# Altium schematic symbol library resistor-smd.SchLib: 21 symbols
Pins are listed as number, name and electrical type; pins without a type are passive.

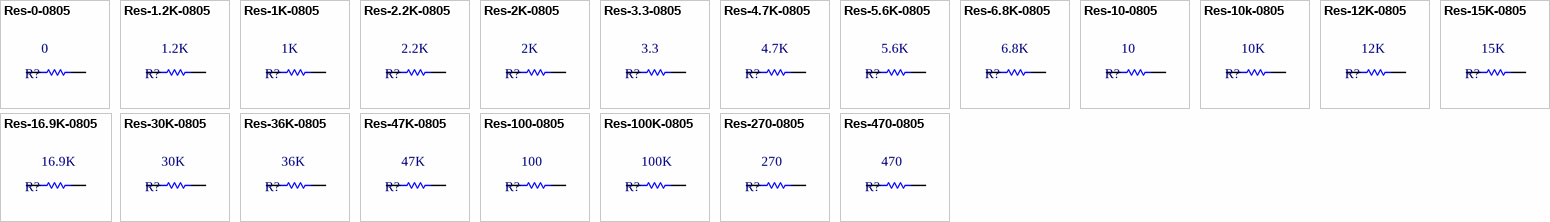
[diagram p0: symbols Res-0-0805 to Res-470-0805]

## Res-0-0805
designator R?  value 0
RES 0 OHM JUMPER 0805; Manufacturer: Vishay Dale; Manufacturer Part Number: WSL080500000ZEA9; Local Supplier: thegioiic; Local Supplier Link: https://thegioiic.com/products/dien-tro-0-ohm-0805-5; Supplier 1: Digikey; Supplier 1 Link: https://www.digikey.com/product-detail/en/vishay-dale/WSL080500000ZEA9/541-3928-1-ND/7423223; Supplier 1 Part Number: 541-3928-1-ND
footprint RES-SM-0805
pins: 1, 2

## Res-1.2K-0805
designator R?  value 1.2K
RES SMD 1.2K OHM 1% 1/8W 0805; Manufacturer: TE Connectivity Passive Product; Manufacturer Part Number: CRG0805F1K2; Local Supplier: thegioiic; Local Supplier Link: https://thegioiic.com/products/dien-tro-1-2k-ohm-0805-5; Supplier 1: Digikey; Supplier 1 Link: https://www.digikey.com/product-detail/en/te-connectivity-passive-product/CRG0805F1K2/A126346CT-ND/7603401; Supplier 1 Part Number: A126346CT-ND
footprint RES-SM-0805
pins: 1, 2

## Res-1K-0805
designator R?  value 1K
RES 1K OHM 1% 1/4W 0805; Manufacturer: Stackpole Electronics Inc; Manufacturer Part Number: RNCP0805FTD1K00; Local Supplier: thegioiic; Local Supplier Link: https://www.thegioiic.com/products/dien-tro-1-kohm-0805-5; Supplier 1: Digikey; Supplier 1 Link: https://www.digikey.com/product-detail/en/stackpole-electronics-inc/RNCP0805FTD1K00/RNCP0805FTD1K00CT-ND/2240568; Supplier 1 Part Number: RNCP0805FTD1K00CT-ND
footprint RES-SM-0805
pins: 1, 2

## Res-2.2K-0805
designator R?  value 2.2K
RES SMD 2.2K OHM 1% 1/8W 0805; Manufacturer: TE Connectivity Passive Product; Manufacturer Part Number: CRG0805F2K2; Local Supplier: thegioiic; Local Supplier Link: https://thegioiic.com/products/dien-tro-2-2k-ohm-0805-5; Supplier 1: Digikey; Supplier 1 Link: https://www.digikey.com/product-detail/en/te-connectivity-passive-product/CRG0805F2K2/A106060CT-ND/3477706; Supplier 1 Part Number: A106060CT-ND
footprint RES-SM-0805
pins: 1, 2

## Res-2K-0805
designator R?  value 2K
RES 2K OHM 0.1% 1/8W 0805; Manufacturer: Panasonic Electronic Components; Manufacturer Part Number: ERA-6AEB202V; Local Supplier: thegioiic; Local Supplier Link: https://thegioiic.com/products/dien-tro-2k-ohm-0805-1; Supplier 1: Digikey; Supplier 1 Link: https://www.digikey.com/product-detail/en/panasonic-electronic-components/ERA-6AEB202V/P2.0KDATR-ND/1465756; Supplier 1 Part Number: P2.0KDATR-ND
footprint RES-SM-0805
pins: 1, 2

## Res-3.3-0805
designator R?  value 3.3
RES SMD 3.3 OHM 5% 0.4W 0805; Manufacturer: Rohm Semiconductor; Manufacturer Part Number: ESR10EZPJ3R3; Local Supplier: thegioiic; Local Supplier Link: https://thegioiic.com/products/dien-tro-3-3-ohm-0805-5; Supplier 1: Digikey; Supplier 1 Link: https://www.digikey.com/product-detail/en/rohm-semiconductor/ESR10EZPJ3R3/RHM3.3KCT-ND/1763022; Supplier 1 Part Number: RHM3.3KCT-ND
footprint RES-SM-0805
pins: 1, 2

## Res-4.7K-0805
designator R?  value 4.7K
RES SMD 4.7K OHM 5% 1/8W 0805; Manufacturer: Yageo; Manufacturer Part Number: RC0805JR-074K7L; Local Supplier: thegioiic; Local Supplier Link: https://www.thegioiic.com/products/dien-tro-4-7-kohm-0805-5; Supplier 1: Digikey; Supplier 1 Link: https://www.digikey.com/product-detail/en/yageo/RC0805JR-074K7L/311-4.7KARCT-ND/731274; Supplier 1 Part Number: 311-4.7KARCT-ND
footprint RES-SM-0805
pins: 1, 2

## Res-5.6K-0805
designator R?  value 5.6K
RES SMD 5.6K OHM 1% 1/8W 0805; Manufacturer: Yageo; Manufacturer Part Number: RC0805FR-075K6L; Local Supplier: thegioiic; Local Supplier Link: https://thegioiic.com/products/dien-tro-5-6k-ohm-0805-5; Supplier 1: Digigkey; Supplier 1 Link: https://www.digikey.com/product-detail/en/yageo/RC0805FR-075K6L/311-5.60KCRCT-ND/730949; Supplier 1 Part Number: 311-5.60KCRCT-ND
footprint RES-SM-0805
pins: 1, 2

## Res-6.8K-0805
designator R?  value 6.8K
RES SMD 6.8K OHM 1% 1/8W 0805; Manufacturer: TE Connectivity Passive Product; Manufacturer Part Number: CRG0805F6K8; Local Supplier: thegioiic; Local Supplier Link: https://thegioiic.com/products/dien-tro-6-8k-ohm-0603-5; Supplier 1: Digikey; Supplier 1 Link: https://www.digikey.com/product-detail/en/te-connectivity-passive-product/CRG0805F6K8/A126384CT-ND/7603439; Supplier 1 Part Number: A126384CT-ND
footprint RES-SM-0805
pins: 1, 2

## Res-10-0805
designator R?  value 10
RES 10 OHM 0.1% 1/5W 0805; Manufacturer: Vishay Thin Film; Manufacturer Part Number: PTN0805E10R0BST1; Local Supplier: thegioiic; Local Supplier Link: https://thegioiic.com/products/dien-tro-10-ohm-0805-5; Supplier 1: Digikey; Supplier 1 Link: https://www.digikey.com/product-detail/en/vishay-thin-film/PTN0805E10R0BST1/764-1471-1-ND/7103255; Supplier 1 Part Number: 764-1471-1-ND
footprint RES-SM-0805
pins: 1, 2

## Res-10k-0805
designator R?  value 10K
RES 10K OHM 1% 1/4W 0805; Manufacturer: Stackpole Electronics Inc; Manufacturer Part Number: RNCP0805FTD10K0; Local Supplier: thegioiic; Local Supplier Link: https://www.thegioiic.com/products/dien-tro-10-kohm-0805-5; Supplier 1: Digikey; Supplier 1 Link: https://www.digikey.com/product-detail/en/stackpole-electronics-inc/RNCP0805FTD10K0/RNCP0805FTD10K0CT-ND/2240601; Supplier 1 Part Number: RNCP0805FTD10K0CT-ND
footprint RES-SM-0805
pins: 1, 2

## Res-12K-0805
designator R?  value 12K
RES 12 KOHM JUMPER 0805; Manufacturer: Vishay Thin Film; Manufacturer Part Number: PAT0805E3121BST1; Local Supplier: icdayroi; Local Supplier Link: https://icdayroi.com/dien-tro-12k-0805-1-goi-50-con; Supplier 1: Digikey; Supplier 1 Link: https://www.digikey.com/product-detail/en/vishay-thin-film/PAT0805E3121BST1/PAT0805E3121BST1-ND/2281536; Supplier 1 Part Number: PAT0805E3121BST1-ND
footprint RES-SM-0805
pins: 1, 2

## Res-15K-0805
designator R?  value 15K
RES 15K OHM 1% 1/4W 0805; Manufacturer: TE Connectivity Passive Product; Manufacturer Part Number: CRGCQ0805F15K; Local Supplier: thegioiic; Local Supplier Link: https://www.thegioiic.com/products/dien-tro-15-kohm-0805-5; Supplier 1: Digikey; Supplier 1 Part Number: A129763CT-ND; Supplier 1 Link: https://www.digikey.com/product-detail/en/te-connectivity-passive-product/CRGCQ0805F15K/A129763CT-ND/8577595
footprint RES-SM-0805
pins: 1, 2

## Res-16.9K-0805
designator R?  value 16.9K
RES SMD 16.9K OHM 1% 1/8W 0805; Local Supplier: thegioiic; Local Supplier Link: https://thegioiic.com/products/dien-tro-16-9k-ohm-0805-1; Supplier 1: Digikey; Supplier 1 Link: https://www.digikey.com/product-detail/en/yageo/RC0805FR-0716K9L/311-16.9KCRCT-ND/730573; Supplier 1 Part Number: 311-16.9KCRCT-ND
footprint RES-SM-0805
pins: 1, 2

## Res-30K-0805
designator R?  value 30K
RES SMD 30K OHM 1% 1/8W 0805; Manufacturer: TE Connectivity Passive Product; Manufacturer Part Number: CRG0805F30K; Local Supplier: thegioiic; Local Supplier Link: https://thegioiic.com/products/dien-tro-30k-ohm-0805-1; Supplier 1: Digikey; Supplier 1 Link: https://www.digikey.com/product-detail/en/te-connectivity-passive-product/CRG0805F30K/A126360CT-ND/7603415; Supplier 1 Part Number: A126360CT-ND
footprint RES-SM-0805
pins: 1, 2

## Res-36K-0805
designator R?  value 36K
RES SMD 36K OHM 1% 1/8W 0805; Manufacturer: Yageo; Manufacturer Part Number: RC0805FR-0736KL; Local Supplier: thegioiic; Local Supplier Link: https://thegioiic.com/products/dien-tro-36k-ohm-0805-5; Supplier 1: Digikey; Supplier 1 Link: https://www.digikey.com/product-detail/en/yageo/RC0805FR-0736KL/311-36.0KCRCT-ND/730830; Supplier 1 Part Number: 311-36.0KCRCT-ND
footprint RES-SM-0805
pins: 1, 2

## Res-47K-0805
designator R?  value 47K
RES SMD 47K OHM 1% 1/8W 0805; Manufacturer: Yageo; Manufacturer Part Number: RC0805FR-0747KL; Local Supplier: thegioiic; Local Supplier Link: https://thegioiic.com/products/dien-tro-47k-ohm-0603-5; Supplier 1: Digikey; Supplier 1 Part Number: 311-47.0KCRCT-ND; Supplier 1 Link: https://www.digikey.com/product-detail/en/yageo/RC0805FR-0747KL/311-47.0KCRCT-ND/730920
footprint RES-SM-0805
pins: 1, 2

## Res-100-0805
designator R?  value 100
RES 100 OHM 0.1% 1/5W 0805; Manufacturer: Vishay Thin Film; Manufacturer Part Number: PTN0805E10R0BST1; Local Supplier: thegioiic; Local Supplier Link: https://thegioiic.com/products/dien-tro-10-ohm-0805-5; Supplier 1: Digikey; Supplier 1 Link: https://www.digikey.com/product-detail/en/vishay-thin-film/PTN0805E10R0BST1/764-1471-1-ND/7103255; Supplier 1 Part Number: 764-1471-1-ND
footprint RES-SM-0805
pins: 1, 2

## Res-100K-0805
designator R?  value 100K
RES 0 OHM JUMPER 0805; Manufacturer: Vishay Dale; Manufacturer Part Number: WSL080500000ZEA9; Local Supplier: thegioiic; Local Supplier Link: https://www.thegioiic.com/products/dien-tro-100-kohm-0805-5; Supplier 1: Digikey; Supplier 1 Link: https://www.digikey.com/product-detail/en/vishay-dale/WSL080500000ZEA9/541-3928-1-ND/7423223; Supplier 1 Part Number: 541-3928-1-ND
footprint RES-SM-0805
pins: 1, 2

## Res-270-0805
designator R?  value 270
RES SMD 270 OHM 0.1% 0.15W 0705; Manufacturer: Vishay Dale; Manufacturer Part Number: M55342E06B270ART5; Local Supplier: thegioiic; Local Supplier Link: https://thegioiic.com/products/dien-tro-270-ohm-0805-5; Supplier 1: Digikey; Supplier 1 Link: https://www.digikey.com/product-detail/en/vishay-dale/M55342E06B270ART5/1135-1723-6-ND/3197905; Supplier 1 Part Number: 1135-1723-6-ND
footprint RES-SM-0805
pins: 1, 2

## Res-470-0805
designator R?  value 470
RES 470 OHM JUMPER 0805; Manufacturer: YAG6006CT-ND; Manufacturer Part Number: PE0805FRF7W0R047L; Local Supplier: thegioiic; Local Supplier Link: https://www.thegioiic.com/products/dien-tro-470-ohm-0805-5; Supplier 1: Digikey; Supplier 1 Link: https://www.digikey.com/product-detail/en/yageo/PE0805FRF7W0R047L/YAG6006CT-ND/9696460; Supplier 1 Part Number: YAG6006CT-ND
footprint RES-SM-0805
pins: 1, 2